# Altium schematic symbol library RES0805.SchLib: 1 symbol
Pins are listed as number, name and electrical type; pins without a type are passive.

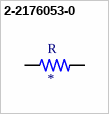
[diagram p0: symbol 2-2176053-0]

## 2-2176053-0
designator R
RES 0.33 OHM 1% 1/4W 0805; Resistance: .33; MF: TE Connectivity; Power_Rating: .25 W; MP: 2-2176053-0; Price: None; EU_RoHS_Compliance: Compliant with Exemptions; Tolerance: 1%; Value: *; Availability: Unavailable; SnapEDA_Link: https://www.snapeda.com/parts/2-2176053-0/TE%20Connectivity/view-part/2214508/?ref=snap; Package: 0805
footprint RESC2012X65N
pins: 1, 2